# Altium footprint library Misc.PcbLib: 4 footprints
Each footprint in its own frame and in the unit in brackets; x right, y up, seen from the top. Pads: shape width x height; smd on the part's side, far side on the other; paste and mask are expansions set on the pad; w line width, h text height; cw(c..) or ccw(c..) is an arc to the next point about the centre after c.
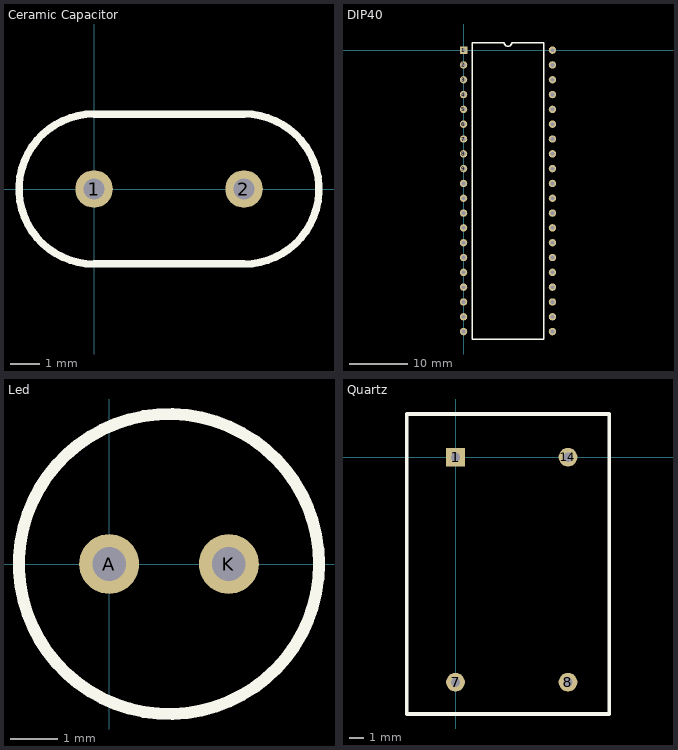
[diagram p0: the footprints below, top view; thin cyan lines are the x and y axes]

## Ceramic Capacitor [mil]
pads (2):
  round 50 hole 28: 1(0,0) 2(200,0)
Top Overlay:
  lines w10: 0,-100 cw(c0,0) 0,100 200,100 cw(c200,0) 200,-100 0,-100

## DIP40 [mil]
pads (40):
  rect 50x50 hole 25: 1(0,0)
  round 50 hole 25: 2(0,-100) 3(0,-200) 4(0,-300) 5(0,-400) 6(0,-500) 7(0,-600) 8(0,-700) 9(0,-800) 10(0,-900) 11(0,-1000) 12(0,-1100) 13(0,-1200) 14(0,-1300) 15(0,-1400) 16(0,-1500) 17(0,-1600) 18(0,-1700) 19(0,-1800) 20(0,-1900) 21(600,-1900) 22(600,-1800) 23(600,-1700) 24(600,-1600) 25(600,-1500) 26(600,-1400) 27(600,-1300) 28(600,-1200) 29(600,-1100) 30(600,-1000) 31(600,-900) 32(600,-800) 33(600,-700) 34(600,-600) 35(600,-500) 36(600,-400) 37(600,-300) 38(600,-200) 39(600,-100) 40(600,0)
Top Overlay:
  lines w10: 60,-1950 60,50 275,50 ccw(c300,50) 325,50 540,50 540,-1950 60,-1950

## Led [mil]
pads (2):
  round 50 hole 28: A(0,0) K(100,0)
Top Overlay:
  circle w10: c50,0 r125.3

## Quartz [mil]
pads (4):
  rect 50x50 hole 25: 1(0,0)
  round 50 hole 25: 7(0,-600) 8(300,-600) 14(300,0)
Top Overlay:
  lines w10: -130,-685 410,-685 410,115 115,115 -130,115 -130,-685